# Altium schematic symbol library 787328-1.SchLib: 1 symbol
Pins are listed as number, name and electrical type; pins without a type are passive.

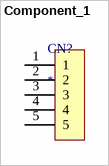
[diagram p0: symbol Component_1]

## Component_1
designator CN?
footprint 787328-1
pins: 1, 2, 3, 4, 5